# Altium footprint library 5V_8A.PcbLib: 1 footprints
Each footprint in its own frame and in the unit in brackets; x right, y up, seen from the top. Pads: shape width x height; smd on the part's side, far side on the other; paste and mask are expansions set on the pad; w line width, h text height; cw(c..) or ccw(c..) is an arc to the next point about the centre after c.
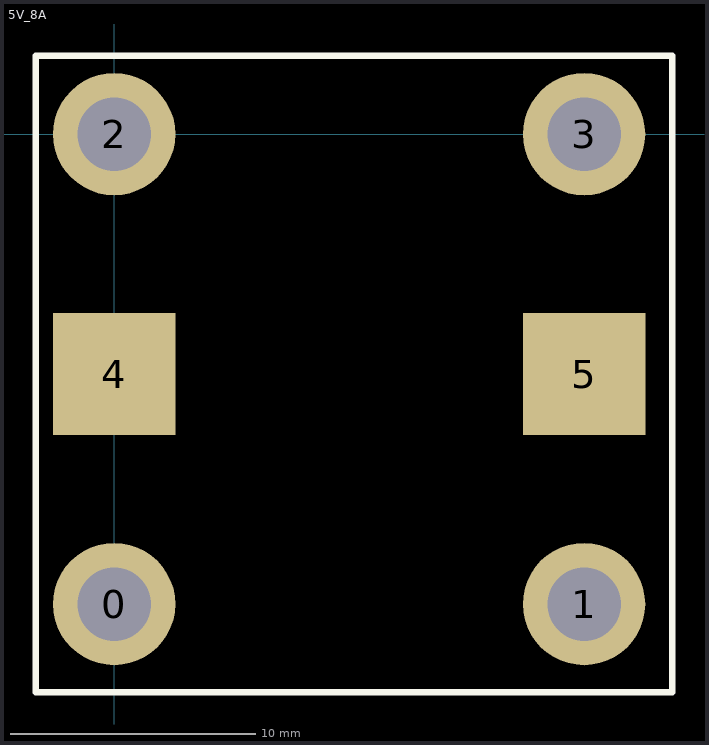
[diagram p0: the footprint, top view; thin cyan lines are the x and y axes]

## 5V_8A [mm]
pads (6):
  round 5 hole 3: 0(0,-19.2) 1(19.2,-19.2) 2(0,0) 3(19.2,0)
  rect 5x5 all layers, no hole: 4(0,-9.8) 5(19.2,-9.8)
Top Overlay:
  lines w0.254: -3.2,-22.8 -3.2,3.2 22.8,3.2 22.8,-22.8 -3.2,-22.8